# EAGLE library part A24001-008-S (library con-omnetics)
CONNECTOR wire to board 1.27 mm (0.05") pitch header
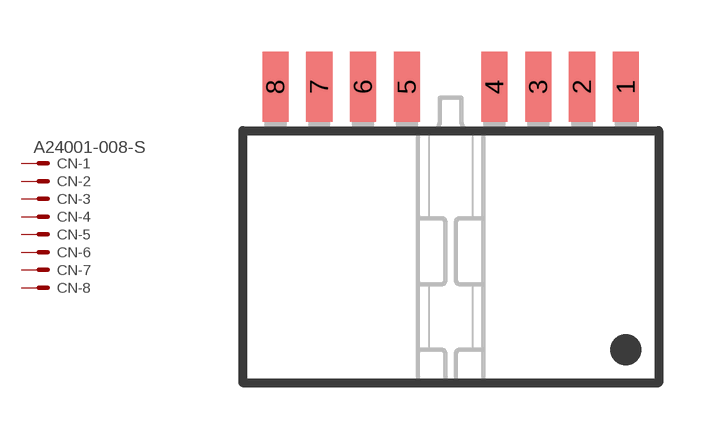
[diagram p5: symbol with the pads of A24001-008; footprint A24001-008]

Designator prefix CN; gates -1=MV -2=M -3=M -4=M -5=M -6=M -7=M -8=M

## A24001-008-S  [A24001-008]
1  -1:S  pas
2  -2:S  pas
3  -3:S  pas
4  -4:S  pas
5  -5:S  pas
6  -6:S  pas
7  -7:S  pas
8  -8:S  pas

## Footprint A24001-008 (pad centres in mm)
Connector SMD right angle, 8 pin
smd 0.762 x 2.032: 1 5.08,5.08; 2 3.81,5.08; 3 2.54,5.08; 4 1.27,5.08; 5 -1.27,5.08; 6 -2.54,5.08; 7 -3.81,5.08; 8 -5.08,5.08